# EAGLE library part NES-MOTHERBOARD-HEADER (library nintendo-classic)
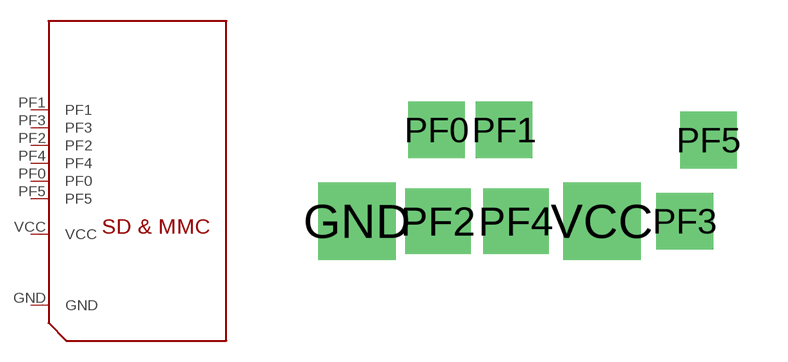
[diagram p3: symbol with the pads of NES-MOTHERBOARD-HEADER; footprint NES-MOTHERBOARD-HEADER]

Designator prefix -

## NES-MOTHERBOARD-HEADER  [NES-MOTHERBOARD-HEADER]
GND  GND  sup
PF0  PF0
PF1  PF1  out
PF2  PF2  in
PF3  PF3  in
PF4  PF4  in
PF5  PF5
VCC  VCC  sup

## Footprint NES-MOTHERBOARD-HEADER (pad centres in mm)
THROUGH-HOLE PAD
drill 1.524 pad 2.1 square: GND 0,0; VCC 7.24,0
drill 1 pad 1.676 square: PF0 2.35,2.7; PF1 4.35,2.7; PF3 9.69,0; PF5 10.39,2.4
drill 1.27 pad 1.93 square: PF2 2.4,0; PF4 4.7,0